# EAGLE library part 6PIN_DEBUG (library Connector)
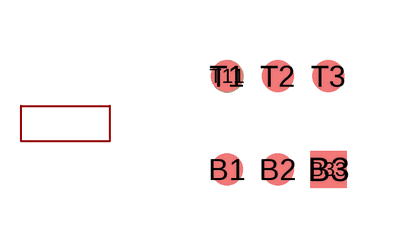
[diagram p5: symbol with the pads of 6PIN_DEBUG; footprint 6PIN_DEBUG]

Designator prefix -

## 6PIN_DEBUG  [6PIN_DEBUG]
B1  B1
B2  B2
B3  B3
B33  B3
T1  T1
T2  T2
T3  T3
T11  T1

## Footprint 6PIN_DEBUG (pad centres in mm)
smd 0.813 x 0.813: B1 -1.27,-1.168; B2 0,-1.168; T1 -1.27,1.168; T2 0,1.168; T3 1.27,1.168
smd 0.914 x 0.914: B3 1.27,-1.168
drill 0.3 pad 0.813: B33 1.27,-1.168; T11 -1.27,1.168